# EAGLE library part PTR9618 (library MCUs)
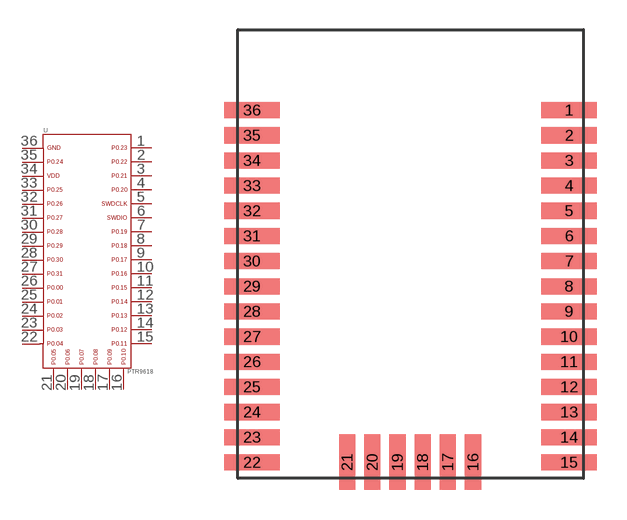
[diagram p7: symbol with the pads of PTR9618; footprint PTR9618]

Designator prefix U

## PTR9618  [PTR9618]
1  1  pas
2  2  pas
3  3  pas
4  4  pas
5  5  pas
6  6  pas
7  7  pas
8  8  pas
9  9  pas
10  10  pas
11  11  pas
12  12  pas
13  13  pas
14  14  pas
15  15  pas
16  16  pas
17  17  pas
18  18  pas
19  19  pas
20  20  pas
21  21  pas
22  22  pas
23  23  pas
24  24  pas
25  25  pas
26  26  pas
27  27  pas
28  28  pas
29  29  pas
30  30  pas
31  31  pas
32  32  pas
33  33  pas
34  34  pas
35  35  pas
36  36  pas

## Footprint PTR9618 (pad centres in mm)
smd 2.794 x 0.813: 1 8,7.264; 2 8,5.994; 3 8,4.724; 4 8,3.454; 5 8,2.184; 6 8,0.914; 7 8,-0.356; 8 8,-1.626; 9 8,-2.896; 10 8,-4.166; 11 8,-5.436; 12 8,-6.706; 13 8,-7.976; 14 8,-9.246; 15 8,-10.516; 22 -8,-10.516; 23 -8,-9.246; 24 -8,-7.976; 25 -8,-6.706; 26 -8,-5.436; 27 -8,-4.166; 28 -8,-2.896; 29 -8,-1.626; 30 -8,-0.356; 31 -8,0.914; 32 -8,2.184; 33 -8,3.454; 34 -8,4.724; 35 -8,5.994; 36 -8,7.264
smd 0.813 x 2.794: 16 3.15,-10.5; 17 1.88,-10.5; 18 0.61,-10.5; 19 -0.66,-10.5; 20 -1.93,-10.5; 21 -3.2,-10.5